# Altium footprint library DFN-8, 2mm x 2mm, 0.5mm.PcbLib: 1 footprints
Each footprint in its own frame and in the unit in brackets; x right, y up, seen from the top. Pads: shape width x height; smd on the part's side, far side on the other; paste and mask are expansions set on the pad; w line width, h text height; cw(c..) or ccw(c..) is an arc to the next point about the centre after c.
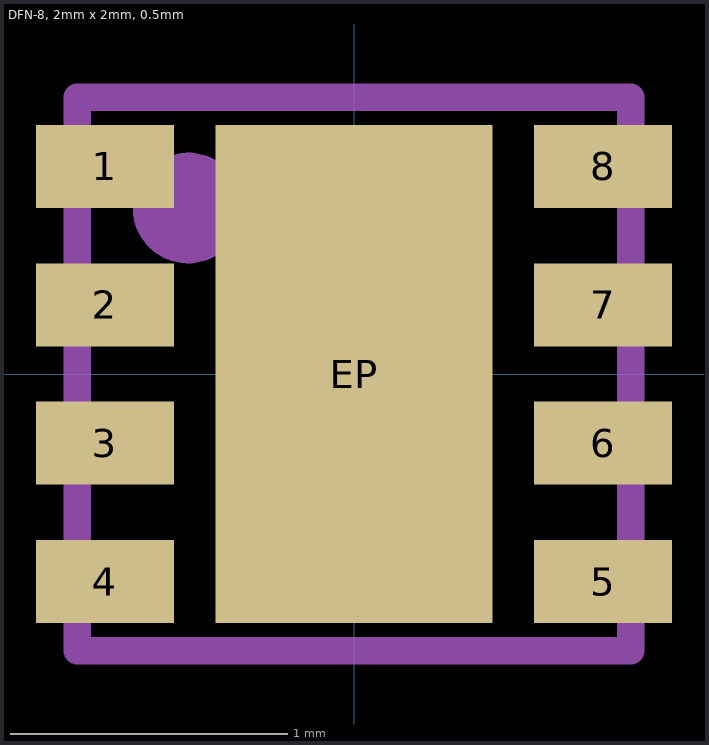
[diagram p0: the footprint, top view; thin cyan lines are the x and y axes]

## DFN-8, 2mm x 2mm, 0.5mm [mm] "DFN-8, 2mm x 2mm, 0.5mm"
height 0.56
pads (9):
  rect 0.5x0.3 smd mask+0.05: 1(-0.9,0.75) 2(-0.9,0.25) 3(-0.9,-0.25) 4(-0.9,-0.75) 5(0.9,-0.75) 6(0.9,-0.25) 7(0.9,0.25) 8(0.9,0.75)
  rect 1x1.8 smd paste-0.25 mask+0.05: EP(0,0)
Top Assembly:
  circle w0.2: c-0.6,0.6 r0.1
  lines w0.1: -1,-1 1,-1 1,1 -1,1 -1,-1
Top Designator:
  text ".Designator" at -1.5,-1.812 h1
Top Component Center:
  lines w0.1: -0.3,0 0.3,0 ; 0,-0.3 0,0.3
3D body "DFN-8, 2mm x 2mm, 0.5mm.step": height 0.95, standoff -0.05, extent -1.01,-1 1.01,1